# Altium schematic symbol library Arena.SchLib: 11 symbols
Pins are listed as number, name and electrical type; pins without a type are passive.

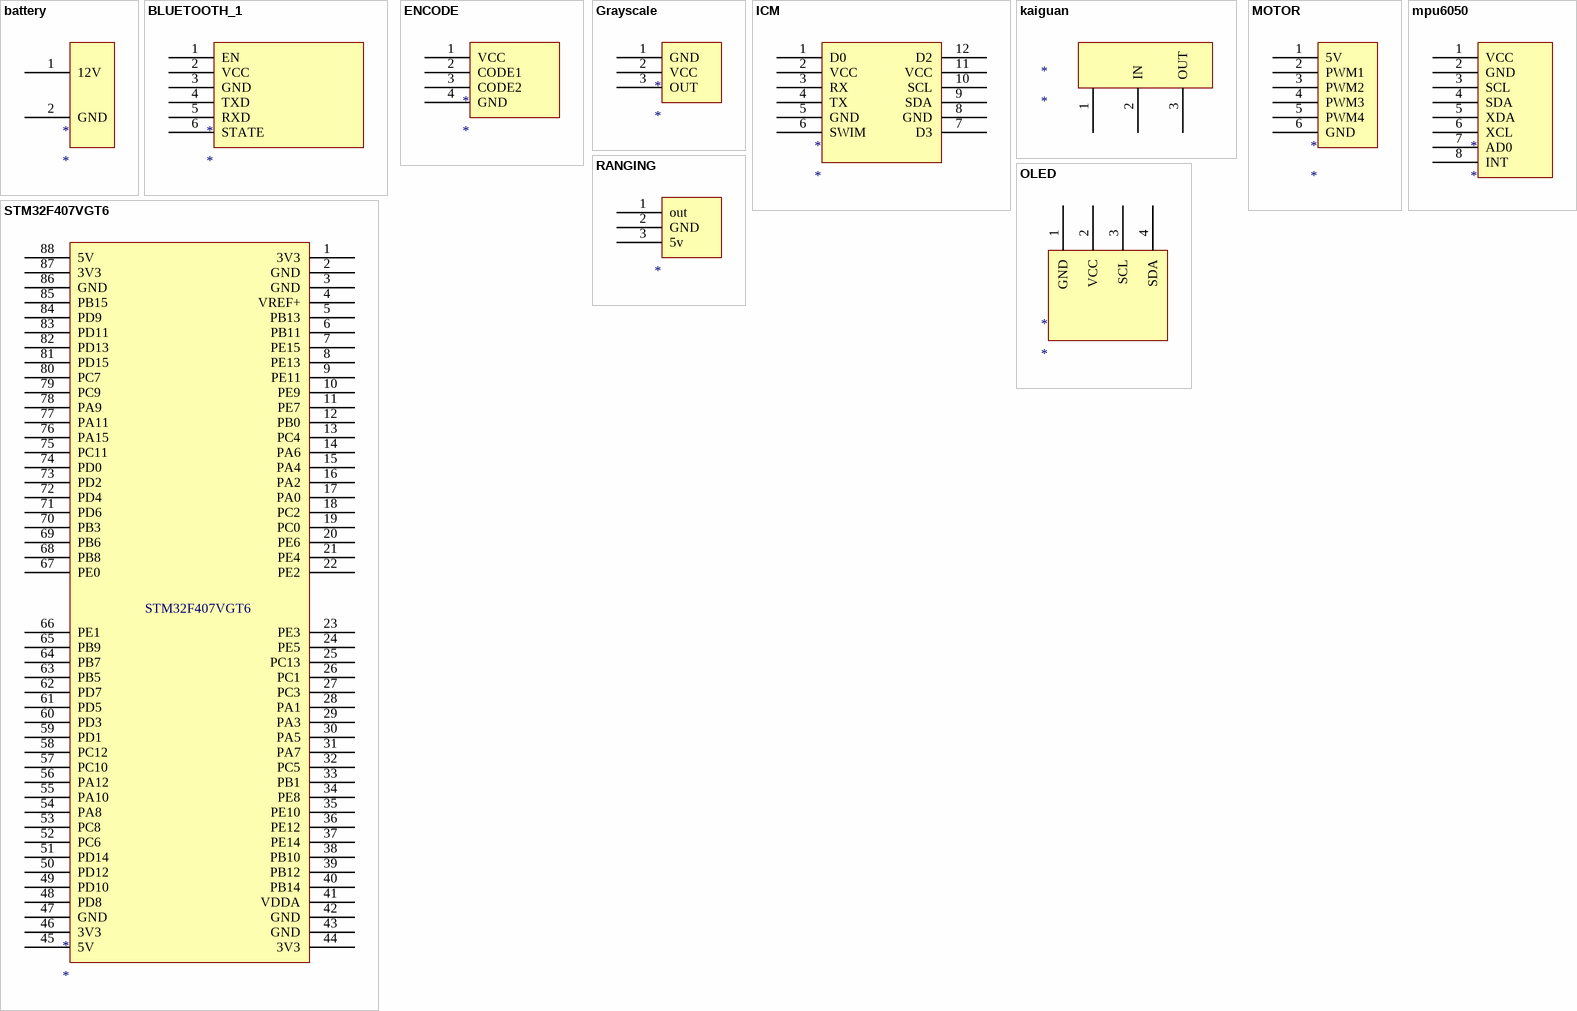
[diagram p0: symbols battery to STM32F407VGT6]

## battery
designator *
电池
footprint jiexianduanzi - duplicate
pins: 1 12V, 2 GND

## BLUETOOTH_1
designator *
footprint bluetooth
pins: 1 EN, 2 VCC, 3 GND, 4 TXD, 5 RXD, 6 STATE

## ENCODE
designator *
footprint PH2.0-L-Z-4P (PH2.0 4P立式直插 间距2mm        淘宝ID:黄晶宝石)
pins: 1 VCC, 2 CODE1, 3 CODE2, 4 GND

## Grayscale
designator *
footprint PH2.0-L-Z-3P (PH2.0 3P立式直插 间距2mm        淘宝ID:黄晶宝石)
pins: 1 GND, 2 VCC, 3 OUT

## ICM
designator *
footprint ICM
pins: 1 D0, 2 VCC, 3 RX, 4 TX, 5 GND, 6 SWIM, 7 D3, 8 GND, 9 SDA, 10 SCL, 11 VCC, 12 D2

## kaiguan
designator *
footprint kaiguan
pins: 1, 2 IN, 3 OUT

## MOTOR
designator *
pins: 1 5V, 2 PWM1, 3 PWM2, 4 PWM3, 5 PWM4, 6 GND

## mpu6050
designator *
footprint 6050
pins: 1 VCC, 2 GND, 3 SCL, 4 SDA, 5 XDA, 6 XCL, 7 AD0, 8 INT

## OLED
designator *
footprint oled
pins: 1 GND, 2 VCC, 3 SCL, 4 SDA

## RANGING
designator ?
footprint PH2.0-L-Z-3P (PH2.0 3P立式直插 间距2mm        淘宝ID:黄晶宝石)
pins: 1 out, 2 GND, 3 5v

## STM32F407VGT6
designator *
pins: 1 3V3, 2 GND, 3 GND, 4 VREF+, 5 PB13, 6 PB11, 7 PE15, 8 PE13, 9 PE11, 10 PE9, 11 PE7, 12 PB0, 13 PC4, 14 PA6, 15 PA4, 16 PA2, 17 PA0, 18 PC2, 19 PC0, 20 PE6, 21 PE4, 22 PE2, 23 PE3, 24 PE5, 25 PC13, 26 PC1, 27 PC3, 28 PA1, 29 PA3, 30 PA5, 31 PA7, 32 PC5, 33 PB1, 34 PE8, 35 PE10, 36 PE12, 37 PE14, 38 PB10, 39 PB12, 40 PB14, 41 VDDA, 42 GND, 43 GND, 44 3V3, 45 5V, 46 3V3, 47 GND, 48 PD8, 49 PD10, 50 PD12, 51 PD14, 52 PC6, 53 PC8, 54 PA8, 55 PA10, 56 PA12, 57 PC10, 58 PC12, 59 PD1, 60 PD3, 61 PD5, 62 PD7, 63 PB5, 64 PB7, 65 PB9, 66 PE1, 67 PE0, 68 PB8, 69 PB6, 70 PB3, 71 PD6, 72 PD4, 73 PD2, 74 PD0, 75 PC11, 76 PA15, 77 PA11, 78 PA9, 79 PC9, 80 PC7, 81 PD15, 82 PD13, 83 PD11, 84 PD9, 85 PB15, 86 GND, 87 3V3, 88 5V